# Altium footprint library PCB1.PcbLib: 23 footprints (part 2 of 2)
Each footprint in its own frame and in the unit in brackets; x right, y up, seen from the top. Pads: shape width x height; smd on the part's side, far side on the other; paste and mask are expansions set on the pad; w line width, h text height; cw(c..) or ccw(c..) is an arc to the next point about the centre after c.
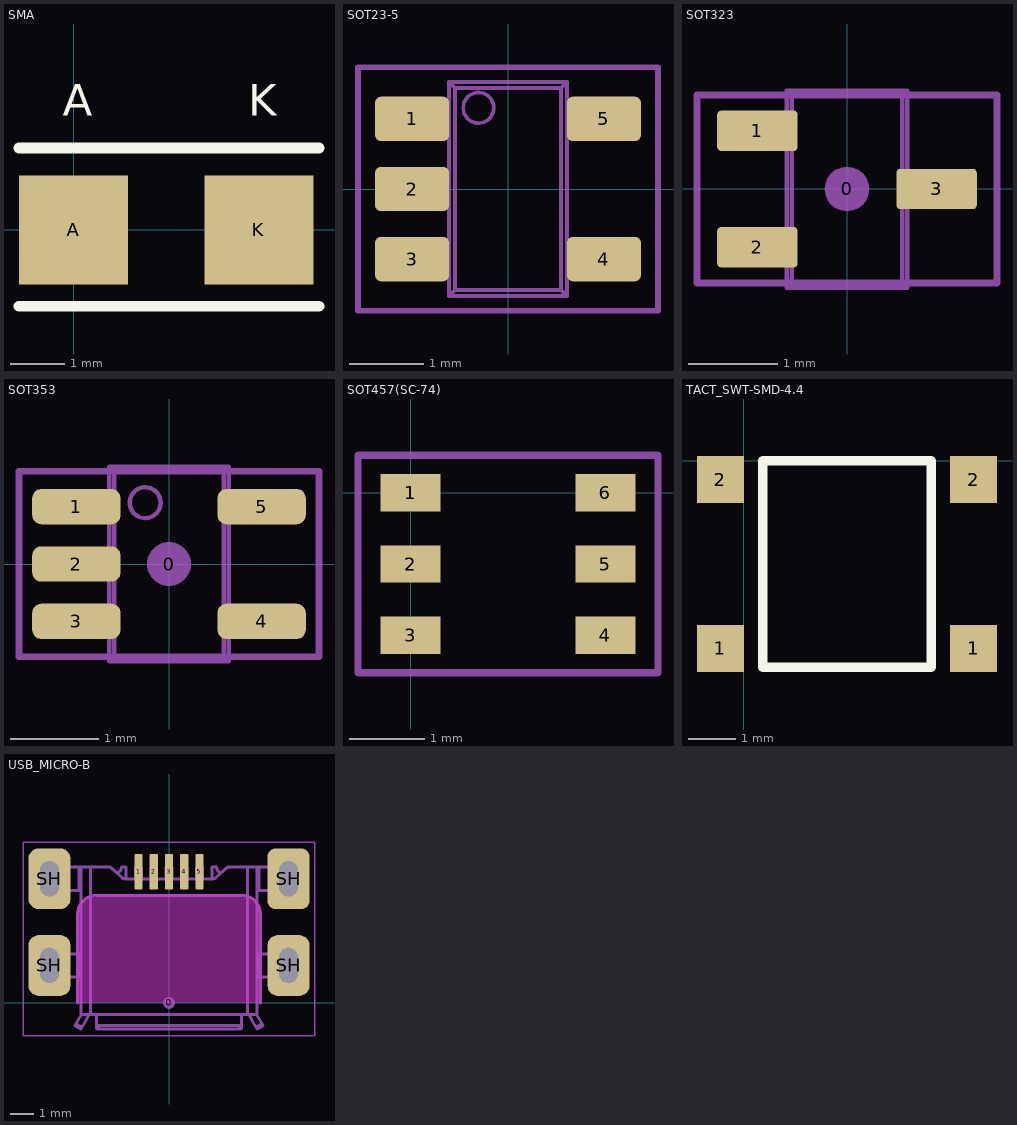
[diagram p1: the footprints below, top view; thin cyan lines are the x and y axes]

## SMA [mm]
pads (2):
  rect 2x2 smd mask+0.102: A(0,0) K(3.4,0)
Top Overlay:
  lines w0.2: -1,-1.4 4.5,-1.4 ; -1,1.5 4.5,1.5
  text "A" at -0.2,1.9 h1
  text "K" at 3.2,1.9 h1
3D body "Diode SMA.stp": height 2.41, standoff 0, extent -0.88,-1.36 4.4,1.56

## SOT23-5 [mm]
pads (5):
  rrect25% 1x0.6 smd: 1(-1.3,0.95) 2(-1.3,0) 3(-1.3,-0.95) 4(1.3,-0.95) 5(1.3,0.95)
Top Overlay:
  text "." at -2.7,1 h0.1
Mechanical 13:
  circle w0.05: c-0.4,1.1 r0.208
  lines w0.05: -1.191,-1.15 -1.191,-0.75 ; -1.191,-0.2 -1.191,0.2 ; -1.191,0.75 -1.191,1.15 ; -1.1,-1.15 -1.1,-0.75 ; -1.1,-0.2 -1.1,0.2 ; -1.1,0.75 -1.1,1.15 ; -1.094,-1.15 -1.094,-0.75 ; -1.094,-0.2 -1.094,0.2 ; -1.094,0.75 -1.094,1.15 ; -0.844,-1.15 -0.844,-0.75 ; -0.844,-0.2 -0.844,0.2 ; -0.844,0.75 -0.844,1.15 ; -0.8,-1.15 -1.4,-1.15 -1.4,-0.75 -0.8,-0.75 ; -0.8,-0.2 -1.4,-0.2 -1.4,0.2 -0.8,0.2 ; -0.8,0.75 -1.4,0.75 -1.4,1.15 -0.8,1.15 ; 0.8,-1.15 1.4,-1.15 1.4,-0.75 0.8,-0.75 ; 0.8,0.75 1.4,0.75 1.4,1.15 0.8,1.15 ; 0.844,-1.15 0.844,-0.75 ; 0.844,0.75 0.844,1.15 ; 1.094,-1.15 1.094,-0.75 ; 1.094,0.75 1.094,1.15 ; 1.1,-1.15 1.1,-0.75 ; 1.1,0.75 1.1,1.15 ; 1.191,-1.15 1.191,-0.75 ; 1.191,0.75 1.191,1.15 ; -0.8,-1.45 0.8,-1.45 ; -0.8,-1.45 -0.719,-1.369 ; -0.8,-1.45 -0.8,1.45 ; -0.8,1.45 0.8,1.45 ; -0.8,1.45 -0.719,1.369 ; -0.719,-1.369 -0.719,1.369 ; -0.719,-1.369 0.719,-1.369 ; -0.719,1.369 0.719,1.369 ; 0.719,-1.369 0.719,1.369 ; 0.719,-1.369 0.8,-1.45 ; 0.719,1.369 0.8,1.45 ; 0.8,-1.45 0.8,1.45
Mechanical 15:
  lines w0.076: -2.032,-1.651 2.032,-1.651 2.032,1.651 -2.032,1.651 -2.032,-1.651
3D body "SOT23-5.STEP": height 1.44, standoff -0.01, extent -1.4,-1.45 1.4,1.45

## SOT323 [mm]
pads (4):
  round 0.5 on Mech15: 0(0,0)
  rrect20% 0.9x0.45 smd: 1(-1,0.65) 2(-1,-0.65) 3(1,0)
Top Overlay:
  text "." at -2.1,0.65 h0.1
Mechanical 13:
  lines w0.05: -1.028,-0.8 -1.028,-0.5 ; -1.028,0.5 -1.028,0.8 ; -0.937,-0.8 -0.937,-0.5 ; -0.937,0.5 -0.937,0.8 ; -0.925,-0.8 -0.925,-0.5 ; -0.925,0.5 -0.925,0.8 ; 0.925,-0.15 0.925,0.15 ; 0.937,-0.15 0.937,0.15 ; 1.028,-0.15 1.028,0.15 ; -0.675,-1.1 -0.619,-1.044 ; -0.675,-1.1 -0.675,1.1 ; -0.675,-1.1 0.675,-1.1 ; -0.675,1.1 -0.619,1.043 ; -0.675,1.1 0.675,1.1 ; -0.619,-1.044 -0.619,1.043 ; -0.619,-1.044 0.619,-1.044 ; -0.619,1.043 0.619,1.043 ; 0.619,-1.044 0.619,1.043 ; 0.619,-1.044 0.675,-1.1 ; 0.619,1.043 0.675,1.1 ; 0.675,-1.1 0.675,1.1 ; -1.2,-0.8 -0.654,-0.8 -0.654,-0.5 -1.2,-0.5 -1.2,-0.8 ; -1.2,0.5 -0.654,0.5 -0.654,0.8 -1.2,0.8 -1.2,0.5 ; 0.654,-0.15 0.654,0.15 1.2,0.15 1.2,-0.15 0.654,-0.15
Mechanical 15:
  lines w0.076: -1.675,-1.05 1.675,-1.05 1.675,1.05 -1.675,1.05 -1.675,-1.05
3D body "SOT323.STEP": height 1.1, standoff 0, extent -1.2,-1.1 1.2,1.1

## SOT353 [mm]
pads (6):
  round 0.5 on Mech15: 0(0,0)
  rrect50% 1x0.4 smd: 1(-1.05,0.65) 2(-1.05,0) 3(-1.05,-0.65) 4(1.05,-0.65) 5(1.05,0.65)
Top Overlay:
  text "." at -2.025,0.65 h0.1
Top Solder:
  rectangle: -1.397,-0.762 -0.635,0.762
Mechanical 13:
  circle w0.05: c-0.27,0.695 r0.175
  lines w0.05: -1.028,-0.8 -1.028,-0.5 ; -1.028,-0.15 -1.028,0.15 ; -1.028,0.5 -1.028,0.8 ; -0.937,-0.8 -0.937,-0.5 ; -0.937,-0.15 -0.937,0.15 ; -0.937,0.5 -0.937,0.8 ; -0.925,-0.8 -0.925,-0.5 ; -0.925,-0.15 -0.925,0.15 ; -0.925,0.5 -0.925,0.8 ; 0.925,-0.8 0.925,-0.5 ; 0.925,0.5 0.925,0.8 ; 0.937,-0.8 0.937,-0.5 ; 0.937,0.5 0.937,0.8 ; 1.028,-0.8 1.028,-0.5 ; 1.028,0.5 1.028,0.8 ; -0.675,-1.1 0.675,-1.1 ; -0.675,-1.1 -0.675,1.1 ; -0.675,-1.1 -0.619,-1.044 ; -0.675,1.1 0.675,1.1 ; -0.675,1.1 -0.619,1.044 ; -0.619,-1.044 0.619,-1.044 ; -0.619,-1.044 -0.619,1.044 ; -0.619,1.044 0.619,1.044 ; 0.619,-1.044 0.675,-1.1 ; 0.619,-1.044 0.619,1.044 ; 0.619,1.044 0.675,1.1 ; 0.675,-1.1 0.675,1.1 ; -1.2,-0.8 -1.2,-0.5 -0.654,-0.5 -0.654,-0.8 -1.2,-0.8 ; -1.2,-0.15 -1.2,0.15 -0.654,0.15 -0.654,-0.15 -1.2,-0.15 ; -1.2,0.5 -1.2,0.8 -0.654,0.8 -0.654,0.5 -1.2,0.5 ; 0.654,-0.8 1.2,-0.8 1.2,-0.5 0.654,-0.5 0.654,-0.8 ; 0.654,0.5 1.2,0.5 1.2,0.8 0.654,0.8 0.654,0.5
Mechanical 15:
  lines w0.076: -1.7,-1.05 1.7,-1.05 1.7,1.05 -1.7,1.05 -1.7,-1.05
3D body "SOT353.STEP": height 1.1, standoff 0, extent -1.2,-1.1 1.2,1.1

## SOT457(SC-74) [mm]
pads (6):
  rect 0.8x0.5 smd: 1(0,0) 2(0,-0.95) 3(0,-1.9) 4(2.6,-1.9) 5(2.6,-0.95) 6(2.6,0)
Top Overlay:
  text "." at -1.3,0 h0.1
Mechanical 3:
  lines w0.1: -0.7,-2.4 -0.7,0.5 3.3,0.5 3.3,-2.4 -0.7,-2.4

## TACT_SWT-SMD-4.4 [mm]
pads (4):
  rect 1x1 smd mask+0.102: 1(-0.5,-4) 1(4.9,-4) 2(-0.5,-0.4) 2(4.9,-0.4)
Top Overlay:
  lines w0.2: 0.4,-4.4 0.4,0 4,0 4,-4.4 0.4,-4.4

## USB_MICRO-B [mm]
pads (10):
  round 0.508 on Mech15: 0(0,0)
  rrect20% 0.35x1.5 smd: 1(-1.3,5.6) 2(-0.65,5.6) 3(0,5.6) 4(0.65,5.6) 5(1.3,5.6)
  rrect50% 1.8x2.6 hole 0.8 slot 1.5 at 90 deg: SH(-5.1,1.6) SH(-5.1,5.3) SH(5.1,1.6)
  rrect40% 1.8x2.6 hole 0.8 slot 1.5 at 90 deg: SH(5.1,5.3)
Keep-Out Layer:
  board cut-out: -3.9,0 -3.9,3.797 -3.9,3.849 -3.879,4.005 -3.799,4.2 -3.671,4.367 -3.503,4.495 -3.309,4.576 -3.152,4.597 -3.1,4.597 3.1,4.597 3.152,4.597 3.309,4.576 3.503,4.495 3.671,4.367 3.799,4.2 3.879,4.005 3.9,3.849 3.9,3.797 3.9,0
Keep-Out Layer:
  lines w0.1: -3.9,0 -3.9,3.823 cw(c-3.126,3.823) -3.126,4.597 ; -3.126,4.597 3.152,4.597 cw(c3.108,3.797) 3.9,3.917 3.9,0
Mechanical 13:
  lines w0.127: -4.85,1.1 -4.85,2.1 ; -4.85,4.8 -4.85,5.8 ; -3.97,-0.881 -3.71,-1.031 ; -3.85,1.1 -3.85,2.1 ; -3.85,4.8 -3.85,5.8 ; -3.75,1.1 -5.25,1.1 -5.25,2.1 -3.75,2.1 ; -3.75,4.8 -5.25,4.8 -5.25,5.8 -2.577,5.8 cw(c-2.577,5.6) -2.443,5.748 -2.007,5.352 ccw(c-1.873,5.5) -1.873,5.3 1.873,5.3 ccw(c1.873,5.5) 2.007,5.352 2.443,5.748 cw(c2.577,5.6) 2.577,5.8 5.25,5.8 5.25,4.8 3.75,4.8 ; -3.75,5.8 -3.75,-0.5 ; -3.45,-0.5 cw(c-3.75,-0.501) -3.49,-0.651 -3.76,-1.118 -4.02,-0.968 -3.75,-0.5 ; -3.35,-0.5 -3.35,5.8 ; -3.1,-0.881 ccw(c-3.006,-0.874) -3,-0.968 ; -2.526,5.793 -2.526,5.8 ; -2.229,5.553 ccw(c-2.275,5.8) -2.024,5.8 -1.825,5.8 -1.825,5.3 ; -1.425,5.3 -1.425,5.8 -1.175,5.8 -1.175,5.3 ; -0.775,5.3 -0.775,5.8 -0.525,5.8 -0.525,5.3 ; -0.125,5.3 -0.125,5.8 0.125,5.8 0.125,5.3 ; 0.525,5.3 0.525,5.8 0.775,5.8 0.775,5.3 ; 1.175,5.3 1.175,5.8 1.425,5.8 1.425,5.3 ; 1.825,5.3 1.825,5.8 2.024,5.8 ccw(c2.275,5.8) 2.229,5.553 ; 2.526,5.793 2.526,5.8 ; 3.1,-0.881 cw(c3.006,-0.874) 3,-0.968 ; 3.35,-0.5 3.35,5.8 ; 3.45,-0.5 ccw(c3.75,-0.501) 3.49,-0.651 3.76,-1.118 4.02,-0.968 3.75,-0.5 ; 3.71,-1.031 3.97,-0.881 ; 3.75,1.1 5.25,1.1 5.25,2.1 3.75,2.1 ; 3.75,5.8 3.75,-0.5 ; 3.85,1.1 3.85,2.1 ; 3.85,4.8 3.85,5.8 ; 4.85,1.1 4.85,2.1 ; 4.85,4.8 4.85,5.8 ; -3.75,-0.5 -3.1,-0.5 ; -3.1,-0.5 3.1,-0.501 ; -3.1,-0.5 -3.1,-1.031 ccw(c-3.006,-1.024) -3,-1.118 ; -3,-1.118 3,-1.118 ; -3,-1.118 -3,-0.968 ; -3,-0.968 3,-0.968 ; 3,-1.118 ccw(c3.006,-1.024) 3.1,-1.031 3.1,-0.5 ; 3,-1.118 3,-0.968 ; 3.1,-0.5 3.75,-0.5
Mechanical 15:
  lines w0.076: -6.223,-1.397 -6.223,6.858 6.223,6.858 6.223,-1.397 -6.223,-1.397
  lines w0.127: -3.9,0 -3.9,3.797 cw(c-3.1,3.797) -3.1,4.597 3.1,4.597 cw(c3.1,3.797) 3.9,3.797 3.9,0
3D body "Micro USB B-type mid-mount FCI.STEP": height 2.15, standoff -0.92, extent -5.25,-1.118 5.25,5.8